# Altium footprint library con-harting-v.PCBLIB: 11 footprints
Each footprint in its own frame and in the unit in brackets; x right, y up, seen from the top. Pads: shape width x height; smd on the part's side, far side on the other; paste and mask are expansions set on the pad; w line width, h text height; cw(c..) or ccw(c..) is an arc to the next point about the centre after c.
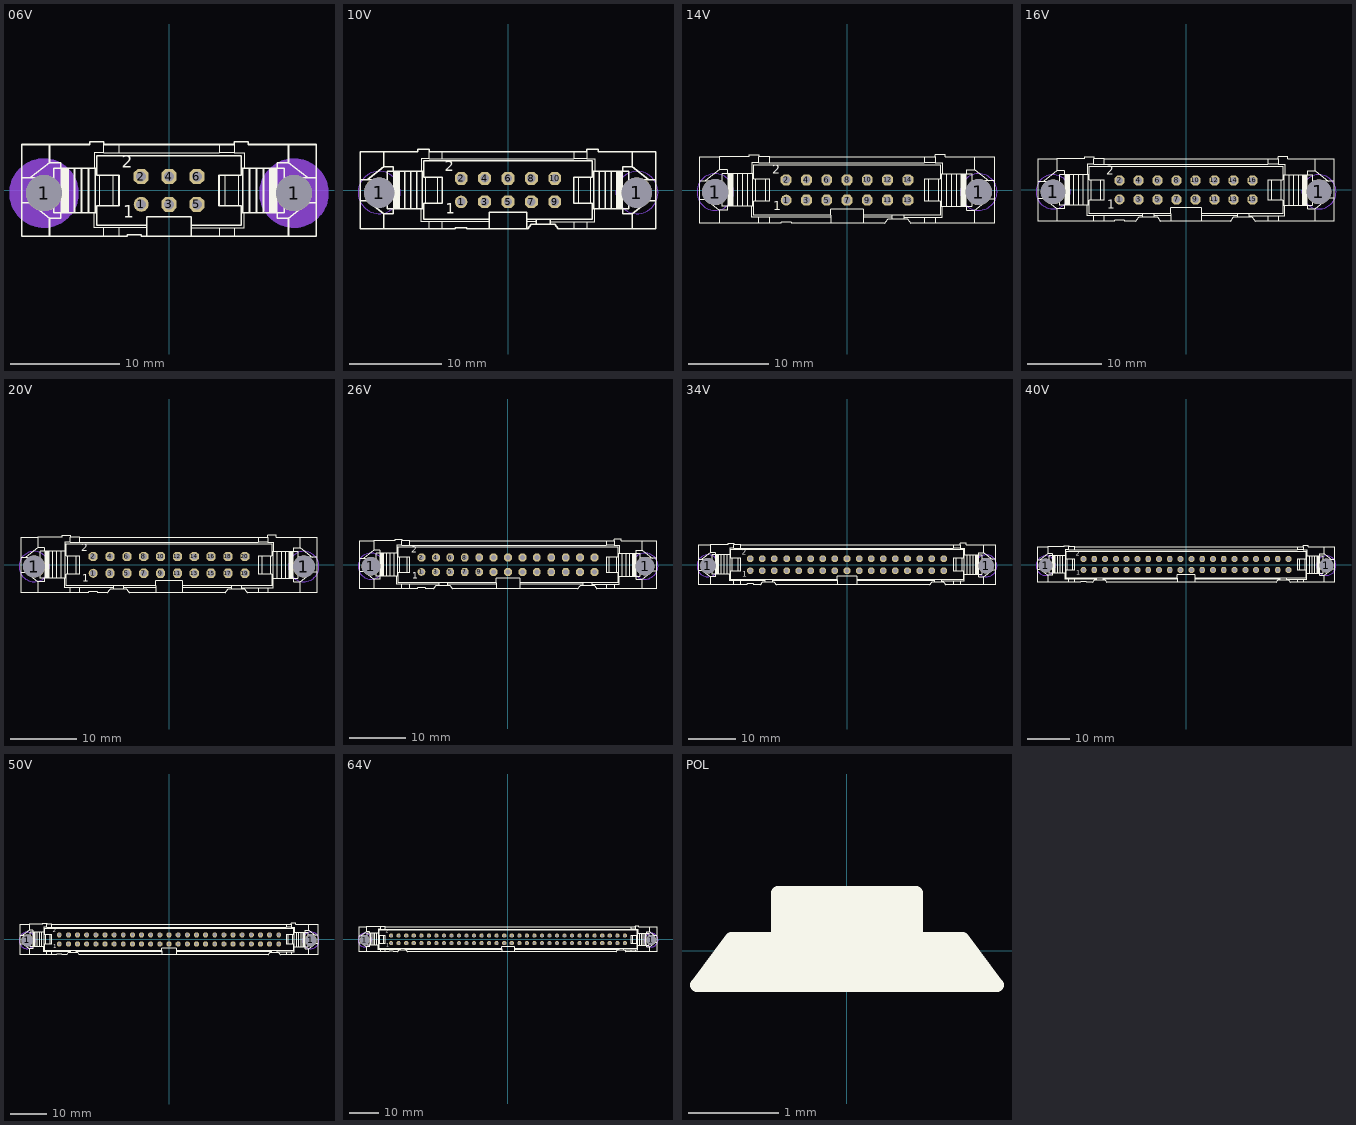
[diagram p0: the footprints below, top view; thin cyan lines are the x and y axes]

## 06V [mil]
pads (8):
  round 130 hole 130: 1(-450,-10) 1(450,-10)
  round 54 hole 36: 1(-100,-50)
  oct 54x54 hole 36: 2(-100,50) 3(0,-50) 4(0,50) 5(100,-50) 6(100,50)
Bottom Layer keep-out:
  circle w70: c-450,-10 r90
  circle w70: c450,-10 r90
Top Overlay:
  drawing of 159 lines, arcs and shapes, not listed
  text "1" at -165,-115 h77.5
  text "2" at -170,65 h77.5
Mechanical 16:
  rectangle: -10,40 10,60
  rectangle: -110,40 -90,60
  rectangle: 90,40 110,60
  rectangle: -10,-60 10,-40
  rectangle: -110,-60 -90,-40
  rectangle: 90,-60 110,-40
  rectangle: 430,-15 500,15
  rectangle: -500,-15 -430,15
  text "6" at -20,-155 h77.5
Via Holes:
  circle w70: c-450,-10 r90
  circle w70: c450,-10 r90

## 10V [mil]
pads (12):
  round 130 hole 130: 1(-550,-10) 1(550,-10)
  round 54 hole 36: 1(-200,-50)
  oct 54x54 hole 36: 2(-200,50) 3(-100,-50) 4(-100,50) 5(0,-50) 6(0,50) 7(100,-50) 8(100,50) 9(200,-50) 10(200,50)
Bottom Layer keep-out:
  circle w0: c-550,-10 r90
  circle w0: c550,-10 r90
Top Overlay:
  drawing of 172 lines, arcs and shapes, not listed
  text "1" at -265,-115 h77.5
  text "2" at -270,65 h77.5
Mechanical 16:
  rectangle: -110,40 -90,60
  rectangle: -210,40 -190,60
  rectangle: -10,40 10,60
  rectangle: 190,40 210,60
  rectangle: 90,40 110,60
  rectangle: -110,-60 -90,-40
  rectangle: -210,-60 -190,-40
  rectangle: -10,-60 10,-40
  rectangle: 190,-60 210,-40
  rectangle: 90,-60 110,-40
  rectangle: 530,-15 600,15
  rectangle: -600,-15 -530,15
  text "10" at -40,-155 h77.5
Via Holes:
  circle w0: c-550,-10 r90
  circle w0: c550,-10 r90

## 14V [mil]
pads (16):
  round 130 hole 130: 1(-650,-10) 1(650,-10)
  round 54 hole 36: 1(-300,-50)
  oct 54x54 hole 36: 2(-300,50) 3(-200,-50) 4(-200,50) 5(-100,-50) 6(-100,50) 7(0,-50) 8(0,50) 9(100,-50) 10(100,50) 11(200,-50) 12(200,50) 13(300,-50) 14(300,50)
Bottom Layer keep-out:
  circle w0: c-650,-10 r90
  circle w0: c650,-10 r90
Top Overlay:
  drawing of 172 lines, arcs and shapes, not listed
  text "1" at -365,-115 h77.5
  text "2" at -370,65 h77.5
Mechanical 16:
  rectangle: -210,40 -190,60
  rectangle: -310,40 -290,60
  rectangle: -110,40 -90,60
  rectangle: 90,40 110,60
  rectangle: -10,40 10,60
  rectangle: -210,-60 -190,-40
  rectangle: -310,-60 -290,-40
  rectangle: -110,-60 -90,-40
  rectangle: 90,-60 110,-40
  rectangle: -10,-60 10,-40
  rectangle: 630,-15 700,15
  rectangle: -700,-15 -630,15
  rectangle: 190,40 210,60
  rectangle: 190,-60 210,-40
  rectangle: 290,40 310,60
  rectangle: 290,-60 310,-40
  text "14" at -40,-155 h77.5
Via Holes:
  circle w0: c-650,-10 r90
  circle w0: c650,-10 r90

## 16V [mil]
pads (18):
  round 130 hole 130: 1(-700,-10) 1(700,-10)
  round 54 hole 36: 1(-350,-50)
  oct 54x54 hole 36: 2(-350,50) 3(-250,-50) 4(-250,50) 5(-150,-50) 6(-150,50) 7(-50,-50) 8(-50,50) 9(50,-50) 10(50,50) 11(150,-50) 12(150,50) 13(250,-50) 14(250,50) 15(350,-50) 16(350,50)
Bottom Layer keep-out:
  circle w0: c700,-10 r90
  circle w0: c-700,-10 r90
Top Overlay:
  drawing of 185 lines, arcs and shapes, not listed
  text "1" at -415,-115 h77.5
  text "2" at -420,65 h77.5
Mechanical 16:
  rectangle: -260,40 -240,60
  rectangle: -360,40 -340,60
  rectangle: -160,40 -140,60
  rectangle: 40,40 60,60
  rectangle: -60,40 -40,60
  rectangle: -260,-60 -240,-40
  rectangle: -360,-60 -340,-40
  rectangle: -160,-60 -140,-40
  rectangle: 40,-60 60,-40
  rectangle: -60,-60 -40,-40
  rectangle: 680,-15 750,15
  rectangle: -750,-15 -680,15
  rectangle: 140,40 160,60
  rectangle: 140,-60 160,-40
  rectangle: 240,40 260,60
  rectangle: 240,-60 260,-40
  rectangle: 340,40 360,60
  rectangle: 340,-60 360,-40
  text "16" at -40,-155 h77.5
Via Holes:
  circle w0: c700,-10 r90
  circle w0: c-700,-10 r90

## 20V [mil]
pads (22):
  round 130 hole 130: 1(-800,-10) 1(800,-10)
  round 54 hole 36: 1(-450,-50)
  oct 54x54 hole 36: 2(-450,50) 3(-350,-50) 4(-350,50) 5(-250,-50) 6(-250,50) 7(-150,-50) 8(-150,50) 9(-50,-50) 10(-50,50) 11(50,-50) 12(50,50) 13(150,-50) 14(150,50) 15(250,-50) 16(250,50) 17(350,-50) 18(350,50) 19(450,-50) 20(450,50)
Bottom Layer keep-out:
  circle w0: c800,-10 r90
  circle w0: c-800,-10 r90
Top Overlay:
  drawing of 185 lines, arcs and shapes, not listed
  text "1" at -515,-115 h77.5
  text "2" at -520,65 h77.5
Mechanical 16:
  rectangle: -360,40 -340,60
  rectangle: -460,40 -440,60
  rectangle: -260,40 -240,60
  rectangle: -60,40 -40,60
  rectangle: -160,40 -140,60
  rectangle: -360,-60 -340,-40
  rectangle: -460,-60 -440,-40
  rectangle: -260,-60 -240,-40
  rectangle: -60,-60 -40,-40
  rectangle: -160,-60 -140,-40
  rectangle: 780,-15 850,15
  rectangle: -850,-15 -780,15
  rectangle: 40,40 60,60
  rectangle: 40,-60 60,-40
  rectangle: 140,40 160,60
  rectangle: 140,-60 160,-40
  rectangle: 240,40 260,60
  rectangle: 240,-60 260,-40
  rectangle: 340,40 360,60
  rectangle: 440,40 460,60
  rectangle: 340,-60 360,-40
  rectangle: 440,-60 460,-40
  text "20" at -45,-155 h77.5
Via Holes:
  circle w0: c800,-10 r90
  circle w0: c-800,-10 r90

## 26V [mil]
pads (28):
  round 130 hole 130: 1(-950,-10) 1(950,-10)
  round 54 hole 36: 1(-600,-50)
  oct 54x54 hole 36: 2(-600,50) 3(-500,-50) 4(-500,50) 5(-400,-50) 6(-400,50) 7(-300,-50) 8(-300,50) 9(-200,-50) 10(-200,50) 11(-100,-50) 12(-100,50) 13(0,-50) 14(0,50) 15(100,-50) 16(100,50) 17(200,-50) 18(200,50) 19(300,-50) 20(300,50) 21(400,-50) 22(400,50) 23(500,-50) 24(500,50) 25(600,-50) 26(600,50)
Bottom Layer keep-out:
  circle w0: c950,-10 r90
  circle w0: c-950,-10 r90
Top Overlay:
  drawing of 185 lines, arcs and shapes, not listed
  text "1" at -665,-115 h77.5
  text "2" at -670,65 h77.5
Mechanical 16:
  rectangle: -510,40 -490,60
  rectangle: -610,40 -590,60
  rectangle: -410,40 -390,60
  rectangle: -210,40 -190,60
  rectangle: -310,40 -290,60
  rectangle: -510,-60 -490,-40
  rectangle: -610,-60 -590,-40
  rectangle: -410,-60 -390,-40
  rectangle: -210,-60 -190,-40
  rectangle: -310,-60 -290,-40
  rectangle: 930,-15 1000,15
  rectangle: -1000,-15 -930,15
  rectangle: -110,40 -90,60
  rectangle: -110,-60 -90,-40
  rectangle: -10,40 10,60
  rectangle: -10,-60 10,-40
  rectangle: 90,40 110,60
  rectangle: 90,-60 110,-40
  rectangle: 190,40 210,60
  rectangle: 290,40 310,60
  rectangle: 390,40 410,60
  rectangle: 490,40 510,60
  rectangle: 590,40 610,60
  rectangle: 190,-60 210,-40
  rectangle: 290,-60 310,-40
  rectangle: 390,-60 410,-40
  rectangle: 490,-60 510,-40
  rectangle: 590,-60 610,-40
  text "26" at -45,-155 h77.5
Via Holes:
  circle w0: c950,-10 r90
  circle w0: c-950,-10 r90

## 34V [mil]
pads (36):
  round 130 hole 130: 1(-1150,-10) 1(1150,-10)
  round 54 hole 36: 1(-800,-50)
  oct 54x54 hole 36: 2(-800,50) 3(-700,-50) 4(-700,50) 5(-600,-50) 6(-600,50) 7(-500,-50) 8(-500,50) 9(-400,-50) 10(-400,50) 11(-300,-50) 12(-300,50) 13(-200,-50) 14(-200,50) 15(-100,-50) 16(-100,50) 17(0,-50) 18(0,50) 19(100,-50) 20(100,50) 21(200,-50) 22(200,50) 23(300,-50) 24(300,50) 25(400,-50) 26(400,50) 27(500,-50) 28(500,50) 29(600,-50) 30(600,50) 31(700,-50) 32(700,50) 33(800,-50) 34(800,50)
Bottom Layer keep-out:
  circle w0: c1150,-10 r90
  circle w0: c-1150,-10 r90
Top Overlay:
  drawing of 185 lines, arcs and shapes, not listed
  text "1" at -865,-115 h77.5
  text "2" at -870,65 h77.5
Mechanical 16:
  rectangle: -710,40 -690,60
  rectangle: -810,40 -790,60
  rectangle: -610,40 -590,60
  rectangle: -410,40 -390,60
  rectangle: -510,40 -490,60
  rectangle: -710,-60 -690,-40
  rectangle: -810,-60 -790,-40
  rectangle: -610,-60 -590,-40
  rectangle: -410,-60 -390,-40
  rectangle: -510,-60 -490,-40
  rectangle: 1130,-15 1200,15
  rectangle: -1200,-15 -1130,15
  rectangle: -310,40 -290,60
  rectangle: -310,-60 -290,-40
  rectangle: -210,40 -190,60
  rectangle: -210,-60 -190,-40
  rectangle: -110,40 -90,60
  rectangle: -110,-60 -90,-40
  rectangle: -10,40 10,60
  rectangle: 90,40 110,60
  rectangle: 190,40 210,60
  rectangle: 290,40 310,60
  rectangle: 390,40 410,60
  rectangle: 490,40 510,60
  rectangle: 590,40 610,60
  rectangle: 690,40 710,60
  rectangle: 790,40 810,60
  rectangle: -10,-60 10,-40
  rectangle: 90,-60 110,-40
  rectangle: 190,-60 210,-40
  rectangle: 290,-60 310,-40
  rectangle: 390,-60 410,-40
  rectangle: 490,-60 510,-40
  rectangle: 590,-60 610,-40
  rectangle: 690,-60 710,-40
  rectangle: 790,-60 810,-40
  text "34" at -45,-155 h77.5
Via Holes:
  circle w0: c1150,-10 r90
  circle w0: c-1150,-10 r90

## 40V [mil]
pads (42):
  round 130 hole 130: 1(-1300,-10) 1(1300,-10)
  round 54 hole 36: 1(-950,-50)
  oct 54x54 hole 36: 2(-950,50) 3(-850,-50) 4(-850,50) 5(-750,-50) 6(-750,50) 7(-650,-50) 8(-650,50) 9(-550,-50) 10(-550,50) 11(-450,-50) 12(-450,50) 13(-350,-50) 14(-350,50) 15(-250,-50) 16(-250,50) 17(-150,-50) 18(-150,50) 19(-50,-50) 20(-50,50) 21(50,-50) 22(50,50) 23(150,-50) 24(150,50) 25(250,-50) 26(250,50) 27(350,-50) 28(350,50) 29(450,-50) 30(450,50) 31(550,-50) 32(550,50) 33(650,-50) 34(650,50) 35(750,-50) 36(750,50) 37(850,-50) 38(850,50) 39(950,-50) 40(950,50)
Bottom Layer keep-out:
  circle w0: c1300,-10 r90
  circle w0: c-1300,-10 r90
Top Overlay:
  drawing of 185 lines, arcs and shapes, not listed
  text "1" at -1015,-115 h77.5
  text "2" at -1020,65 h77.5
Mechanical 16:
  rectangle: -860,40 -840,60
  rectangle: -960,40 -940,60
  rectangle: -760,40 -740,60
  rectangle: -560,40 -540,60
  rectangle: -660,40 -640,60
  rectangle: -860,-60 -840,-40
  rectangle: -960,-60 -940,-40
  rectangle: -760,-60 -740,-40
  rectangle: -560,-60 -540,-40
  rectangle: -660,-60 -640,-40
  rectangle: 1280,-15 1350,15
  rectangle: -1350,-15 -1280,15
  rectangle: -460,40 -440,60
  rectangle: -460,-60 -440,-40
  rectangle: -360,40 -340,60
  rectangle: -360,-60 -340,-40
  rectangle: -260,40 -240,60
  rectangle: -260,-60 -240,-40
  rectangle: -160,40 -140,60
  rectangle: -60,40 -40,60
  rectangle: 40,40 60,60
  rectangle: 140,40 160,60
  rectangle: 240,40 260,60
  rectangle: 340,40 360,60
  rectangle: 440,40 460,60
  rectangle: 540,40 560,60
  rectangle: 640,40 660,60
  rectangle: 740,40 760,60
  rectangle: 840,40 860,60
  rectangle: 940,40 960,60
  rectangle: -160,-60 -140,-40
  rectangle: -60,-60 -40,-40
  rectangle: 40,-60 60,-40
  rectangle: 140,-60 160,-40
  rectangle: 240,-60 260,-40
  rectangle: 340,-60 360,-40
  rectangle: 440,-60 460,-40
  rectangle: 540,-60 560,-40
  rectangle: 640,-60 660,-40
  rectangle: 740,-60 760,-40
  rectangle: 840,-60 860,-40
  rectangle: 940,-60 960,-40
  text "40" at -45,-155 h77.5
Via Holes:
  circle w0: c1300,-10 r90
  circle w0: c-1300,-10 r90

## 50V [mil]
pads (52):
  round 130 hole 130: 1(-1550,-10) 1(1550,-10)
  round 54 hole 36: 1(-1200,-50)
  oct 54x54 hole 36: 2(-1200,50) 3(-1100,-50) 4(-1100,50) 5(-1000,-50) 6(-1000,50) 7(-900,-50) 8(-900,50) 9(-800,-50) 10(-800,50) 11(-700,-50) 12(-700,50) 13(-600,-50) 14(-600,50) 15(-500,-50) 16(-500,50) 17(-400,-50) 18(-400,50) 19(-300,-50) 20(-300,50) 21(-200,-50) 22(-200,50) 23(-100,-50) 24(-100,50) 25(0,-50) 26(0,50) 27(100,-50) 28(100,50) 29(200,-50) 30(200,50) 31(300,-50) 32(300,50) 33(400,-50) 34(400,50) 35(500,-50) 36(500,50) 37(600,-50) 38(600,50) 39(700,-50) 40(700,50) 41(800,-50) 42(800,50) 43(900,-50) 44(900,50) 45(1000,-50) 46(1000,50) 47(1100,-50) 48(1100,50) 49(1200,-50) 50(1200,50)
Bottom Layer keep-out:
  circle w0: c1550,-10 r90
  circle w0: c-1550,-10 r90
Top Overlay:
  drawing of 185 lines, arcs and shapes, not listed
  text "1" at -1265,-115 h77.5
  text "2" at -1270,65 h77.5
Mechanical 16:
  rectangle: -1010,40 -990,60
  rectangle: -1110,40 -1090,60
  rectangle: -910,40 -890,60
  rectangle: -710,40 -690,60
  rectangle: -810,40 -790,60
  rectangle: -1010,-60 -990,-40
  rectangle: -1110,-60 -1090,-40
  rectangle: -910,-60 -890,-40
  rectangle: -710,-60 -690,-40
  rectangle: -810,-60 -790,-40
  rectangle: 1530,-15 1600,15
  rectangle: -1600,-15 -1530,15
  rectangle: -610,40 -590,60
  rectangle: -610,-60 -590,-40
  rectangle: -510,40 -490,60
  rectangle: -510,-60 -490,-40
  rectangle: -410,40 -390,60
  rectangle: -410,-60 -390,-40
  rectangle: -310,40 -290,60
  rectangle: -210,40 -190,60
  rectangle: -110,40 -90,60
  rectangle: -10,40 10,60
  rectangle: 90,40 110,60
  rectangle: 190,40 210,60
  rectangle: 290,40 310,60
  rectangle: 390,40 410,60
  rectangle: 490,40 510,60
  rectangle: 590,40 610,60
  rectangle: 690,40 710,60
  rectangle: -310,-60 -290,-40
  rectangle: -210,-60 -190,-40
  rectangle: -110,-60 -90,-40
  rectangle: -10,-60 10,-40
  rectangle: 90,-60 110,-40
  rectangle: 190,-60 210,-40
  rectangle: 290,-60 310,-40
  rectangle: 390,-60 410,-40
  rectangle: 490,-60 510,-40
  rectangle: 590,-60 610,-40
  rectangle: 690,-60 710,-40
  rectangle: 890,40 910,60
  rectangle: 990,40 1010,60
  rectangle: 1090,40 1110,60
  rectangle: 1190,40 1210,60
  rectangle: 890,-60 910,-40
  rectangle: 990,-60 1010,-40
  rectangle: 1090,-60 1110,-40
  rectangle: 1190,-60 1210,-40
  rectangle: 790,40 810,60
  rectangle: 790,-60 810,-40
  rectangle: -1210,40 -1190,60
  rectangle: -1210,-60 -1190,-40
  text "50" at -45,-155 h77.5
Via Holes:
  circle w0: c1550,-10 r90
  circle w0: c-1550,-10 r90

## 64V [mil]
pads (66):
  round 130 hole 130: 1(-1900,-10) 1(1900,-10)
  round 54 hole 36: 1(-1550,-50)
  oct 54x54 hole 36: 2(-1550,50) 3(-1450,-50) 4(-1450,50) 5(-1350,-50) 6(-1350,50) 7(-1250,-50) 8(-1250,50) 9(-1150,-50) 10(-1150,50) 11(-1050,-50) 12(-1050,50) 13(-950,-50) 14(-950,50) 15(-850,-50) 16(-850,50) 17(-750,-50) 18(-750,50) 19(-650,-50) 20(-650,50) 21(-550,-50) 22(-550,50) 23(-450,-50) 24(-450,50) 25(-350,-50) 26(-350,50) 27(-250,-50) 28(-250,50) 29(-150,-50) 30(-150,50) 31(-50,-50) 32(-50,50) 33(50,-50) 34(50,50) 35(150,-50) 36(150,50) 37(250,-50) 38(250,50) 39(350,-50) 40(350,50) 41(450,-50) 42(450,50) 43(550,-50) 44(550,50) 45(650,-50) 46(650,50) 47(750,-50) 48(750,50) 49(850,-50) 50(850,50) 51(950,-50) 52(950,50) 53(1050,-50) 54(1050,50) 55(1150,-50) 56(1150,50) 57(1250,-50) 58(1250,50) 59(1350,-50) 60(1350,50) 61(1450,-50) 62(1450,50) 63(1550,-50) 64(1550,50)
Bottom Layer keep-out:
  circle w0: c1900,-10 r90
  circle w0: c-1900,-10 r90
Top Overlay:
  drawing of 185 lines, arcs and shapes, not listed
  text "1" at -1615,-115 h77.5
  text "2" at -1620,65 h77.5
Mechanical 16:
  rectangle: -1460,40 -1440,60
  rectangle: -1560,40 -1540,60
  rectangle: -1360,40 -1340,60
  rectangle: -1160,40 -1140,60
  rectangle: -1260,40 -1240,60
  rectangle: -1460,-60 -1440,-40
  rectangle: -1560,-60 -1540,-40
  rectangle: -1360,-60 -1340,-40
  rectangle: -1160,-60 -1140,-40
  rectangle: -1260,-60 -1240,-40
  rectangle: 1880,-15 1950,15
  rectangle: -1950,-15 -1880,15
  rectangle: -1060,40 -1040,60
  rectangle: -1060,-60 -1040,-40
  rectangle: -960,40 -940,60
  rectangle: -960,-60 -940,-40
  rectangle: -860,40 -840,60
  rectangle: -860,-60 -840,-40
  rectangle: -760,40 -740,60
  rectangle: -660,40 -640,60
  rectangle: -560,40 -540,60
  rectangle: -460,40 -440,60
  rectangle: -360,40 -340,60
  rectangle: -260,40 -240,60
  rectangle: -160,40 -140,60
  rectangle: -60,40 -40,60
  rectangle: 40,40 60,60
  rectangle: 140,40 160,60
  rectangle: 240,40 260,60
  rectangle: 340,40 360,60
  rectangle: -760,-60 -740,-40
  rectangle: -660,-60 -640,-40
  rectangle: -560,-60 -540,-40
  rectangle: -460,-60 -440,-40
  rectangle: -360,-60 -340,-40
  rectangle: -260,-60 -240,-40
  rectangle: -160,-60 -140,-40
  rectangle: -60,-60 -40,-40
  rectangle: 40,-60 60,-40
  rectangle: 140,-60 160,-40
  rectangle: 240,-60 260,-40
  rectangle: 340,-60 360,-40
  rectangle: 440,40 460,60
  rectangle: 540,40 560,60
  rectangle: 640,40 660,60
  rectangle: 740,40 760,60
  rectangle: 840,40 860,60
  rectangle: 440,-60 460,-40
  rectangle: 540,-60 560,-40
  rectangle: 640,-60 660,-40
  rectangle: 740,-60 760,-40
  rectangle: 840,-60 860,-40
  rectangle: 940,-60 960,-40
  rectangle: 1040,-60 1060,-40
  rectangle: 1140,-60 1160,-40
  rectangle: 1240,-60 1260,-40
  rectangle: 1340,-60 1360,-40
  rectangle: 940,40 960,60
  rectangle: 1040,40 1060,60
  rectangle: 1140,40 1160,60
  rectangle: 1240,40 1260,60
  rectangle: 1340,40 1360,60
  rectangle: 1440,40 1460,60
  rectangle: 1540,40 1560,60
  rectangle: 1440,-60 1460,-40
  rectangle: 1540,-60 1560,-40
  text "64" at -45,-155 h77.5
Via Holes:
  circle w0: c1900,-10 r90
  circle w0: c-1900,-10 r90

## POL [mil]
Top Overlay:
  rectangle: -50,-15 50,5
  rectangle: -30,5 30,25
  rectangle: -60,-15 -50,-5
  rectangle: -55,-5 -50,0
  rectangle: 50,-15 60,-5
  rectangle: 50,-5 55,0
  lines w6: -65,-15 -50,5 -30,5 -30,25 30,25 30,5 50,5 65,-15 -65,-15